# EAGLE library part YC164-JR-072KL (library Carrier Board)
Res Thick Film Array 100 Ohm 5% ?200ppm/C ISOL Epoxy 8-Pin 1206(4 X 0603) Convex SMD T/R Buy Part <https://snapeda.com/parts/YC164-JR-072KL/Yageo/view-part/?ref=eda>
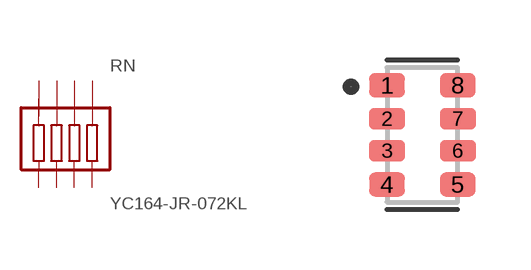
[diagram p2: symbol with the pads of RESCAXE80P320X160X70-8N; footprint RESCAXE80P320X160X70-8N]

Designator prefix RN

## YC164-JR-072KL (ARROW_ELECTRONICS-PURCHASE-URL: https://snapeda.com/shop?store=Arrow+Electronics&id=1382212; AVAILABILITY: Good; DESCRIPTION: 2k Ohm ±5% 62.5mW Power Per Element Isolated Resistor Network/Array ±200ppm/°C 1206 (3216 Metric), Convex, Long Side Terminals; DIGIKEY-PURCHASE-URL: https://snapeda.com/shop?store=DigiKey&id=1382212; MF: Yageo; MOUSER-PURCHASE-URL: https://snapeda.com/shop?store=Mouser&id=1382212; MP: YC164-JR-072KL; PACKAGE: 1206 Yageo; PRICE: None)  [RESCAXE80P320X160X70-8N]
1  1
2  2
3  3
4  4
5  5
6  6
7  7
8  8

## Footprint RESCAXE80P320X160X70-8N (pad centres in mm)
smd 0.9 x 0.61: 1 -0.885,1.24; 4 -0.885,-1.24; 5 0.885,-1.24; 8 0.885,1.24
smd 0.9 x 0.53: 2 -0.885,0.4; 3 -0.885,-0.4; 6 0.885,-0.4; 7 0.885,0.4